# EAGLE library part FT201XS-U (library FT201XS-U)
Full Speed USB to I2C Interface USB 2.0 5V Tube 16-Pin SSOP Source: Datasheet <http://www.ftdichip.com/Support/Documents/DataSheets/ICs/DS_FT201X.pdf>
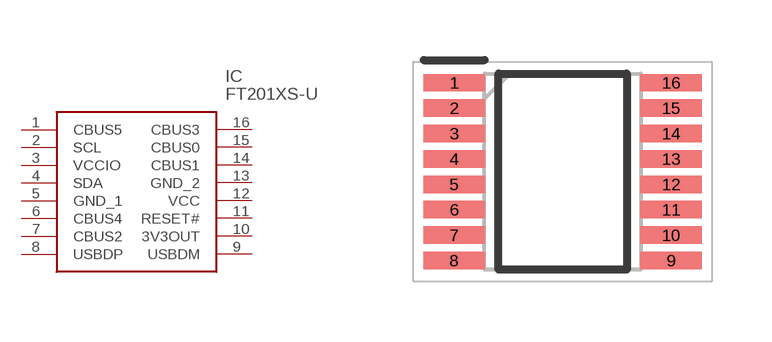
[diagram p0: symbol with the pads of SOP64P599X175-16N; footprint SOP64P599X175-16N]

Designator prefix IC

## FT201XS-U (Arrow_Part_Number: FT201XS-U; Arrow_Price-Stock: https://www.arrow.com/en/products/ft201xs-u/ftdi-chip; Description: Full Speed USB to I2C Interface USB 2.0 5V Tube 16-Pin SSOP; Height: 1.753mm; Manufacturer_Name: FTDI Chip; Manufacturer_Part_Number: FT201XS-U; Mouser_Part_Number: 895-FT201XS-U; Mouser_Price-Stock: https://www.mouser.co.uk/ProductDetail/FTDI/FT201XS-U?qs=Gp1Yz1mis3WB8%2FosoP460g%3D%3D)  [SOP64P599X175-16N]
1  CBUS5
2  SCL
3  VCCIO
4  SDA
5  GND_1
6  CBUS4
7  CBUS2
8  USBDP
9  USBDM
10  3V3OUT
11  RESET#
12  VCC
13  GND_2
14  CBUS1
15  CBUS0
16  CBUS3

## Footprint SOP64P599X175-16N (pad centres in mm)
SSOP-16 (MO-137AB)
smd 1.526 x 0.435: 1 -2.712,2.222; 2 -2.712,1.588; 3 -2.712,0.952; 4 -2.712,0.318; 5 -2.712,-0.318; 6 -2.712,-0.952; 7 -2.712,-1.588; 8 -2.712,-2.222; 9 2.712,-2.222; 10 2.712,-1.588; 11 2.712,-0.952; 12 2.712,-0.318; 13 2.712,0.318; 14 2.712,0.952; 15 2.712,1.588; 16 2.712,2.222